# Altium schematic symbol library Toygether_Schlib.SchLib: 35 symbols
Pins are listed as number, name and electrical type; pins without a type are passive.

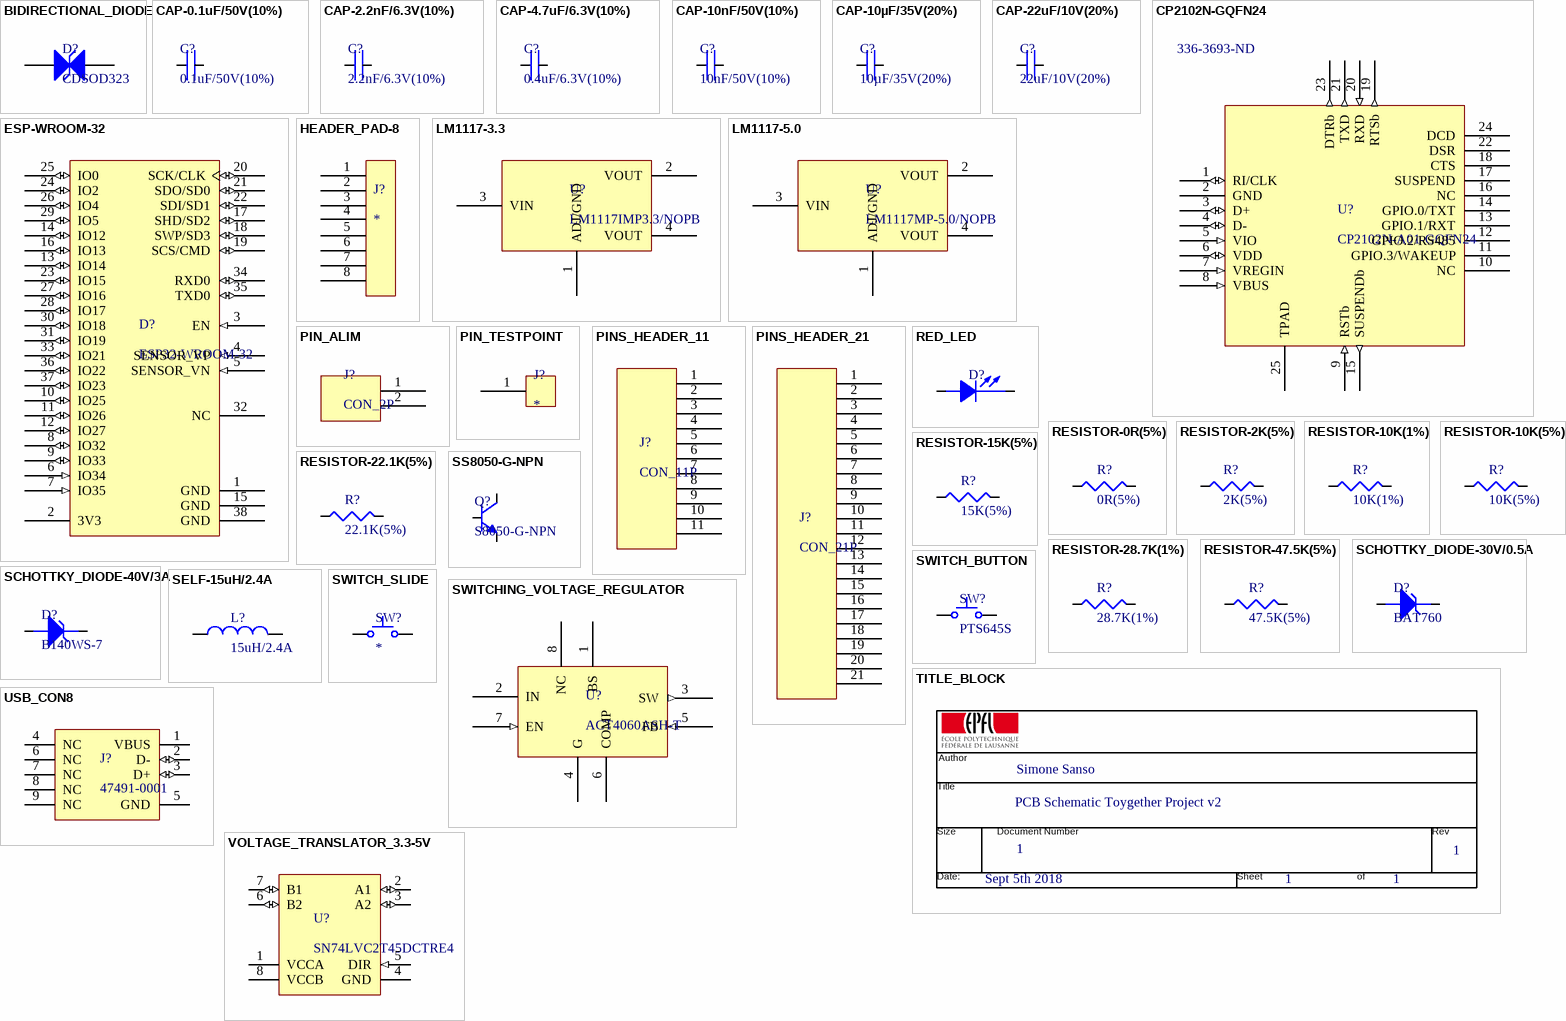
[diagram p0: symbols BIDIRECTIONAL_DIODE to VOLTAGE_TRANSLATOR_3.3-5V]

## BIDIRECTIONAL_DIODE
designator D?, comment CDSOD323
CDSOD323-T05LC - ESD Suppressors / TVS Diodes Bidirectional Ultra Low Cap; Supplier 1: Mouser; Supplier Part Number 1: 652-CDSOD323-T05LC
footprint SOD-323-SCHOTTKY_DIODE-30V/0.5A (Molded Diode, 2-Leads, Body 2,50x1,30mm, IPC Medium Density)
pins: 1 C, 2 C

## CAP-0.1uF/50V(10%)
designator C?, comment 0.1uF/50V(10%)
GRM188R71H104KA93D-0.1uF/50V(10%); Supplier 1: Distrelec; Supplier Part Number 1: 16520001
footprint CAPC0603 (Chip Capacitor, 2-Leads, Body 1,60x0,80mm, IPC Medium Density)
pins: 1, 2

## CAP-2.2nF/6.3V(10%)
designator C?, comment 2.2nF/6.3V(10%)
C0603X7R0J222K030BA; Supplier 1: Mouser; Supplier Part Number 1: 810-C0603X7R0J222K0A
footprint CAPC0603 (Chip Capacitor, 2-Leads, Body 1,60x0,80mm, IPC Medium Density)
pins: 1, 2

## CAP-4.7uF/6.3V(10%)
designator C?, comment 0.4uF/6.3V(10%)
GRT188C80J475KE01D; Supplier 1: Mouser; Supplier Part Number 1: 81-GRT188C80J475KE1D
footprint CAPC0603 (Chip Capacitor, 2-Leads, Body 1,60x0,80mm, IPC Medium Density)
pins: 1, 2

## CAP-10nF/50V(10%)
designator C?, comment 10nF/50V(10%)
C1608X7R1H103K080AE; Supplier 1: Mouser; Supplier Part Number 1: 810-C1608X7R1H103KAE
footprint CAPC0603 (Chip Capacitor, 2-Leads, Body 1,60x0,80mm, IPC Medium Density)
pins: 1, 2

## CAP-10µF/35V(20%)
designator C?, comment 10µF/35V(20%)
C0603C106M8PACTU; Supplier 1: Mouser; Supplier Part Number 1: 80-C0603C106M8PACTU
footprint CAPC0603 (Chip Capacitor, 2-Leads, Body 1,60x0,80mm, IPC Medium Density)
pins: 1, 2

## CAP-22uF/10V(20%)
designator C?, comment 22uF/10V(20%)
GRM188R61A226ME15D-22uF/10V(20%); Supplier 1: Digi-Key; Supplier Part Number 1: 490-10476-6-ND
footprint CAPC0603 (Chip Capacitor, 2-Leads, Body 1,60x0,80mm, IPC Medium Density)
pins: 1, 2

## CP2102N-GQFN24
designator U?, comment CP2102N-A01-GQFN24  Supplier Part Number 1: 336-3693-ND
Supplier 1: Digi-Key
footprint CP2102N-GQFN24 (QFN, 24-Leads, Body 4,00x4,00mm, Pitch 0,50mm, Thermal Pad 2,55x2,55mm, IPC Medium Density)
pins: 1 RI/CLK (io) "Digital Input. Ring Indicator control input (active low). / Digital Output. Clock output.", 2 GND "Ground", 3 D+ (io) "USB Data Positive", 4 D- (io) "USB Data Negative", 5 VIO (in) "I/O Supply Power Input", 6 VDD (io) "Supply Power Input / 5V Regulator Output", 7 VREGIN (in) "5V Regulator Input", 8 VBUS (in) "Digital Input. VBUS Sense Input. This pin should be connected to the VBUS signal of a USB network. A 5 V signal on this pin indicates a USB network connection", 9 RSTb (in) "Active-low Reset", 10 NC "No Connect (leave this pin floating).", 11 GPIO.3/WAKEUP "Digital Input/Output. General Purpose I/O. / Digital Input. Remote USB wakeup interrupt input.", 12 GPIO.2/RS485 "Digital Input/Output. General Purpose I/O. / Digital Output. RS485 control signal.", 13 GPIO.1/RXT "Digital Input/Output. General Purpose I/O / Digital Output. Receive LED toggle.", 14 GPIO.0/TXT "Digital Input/Output. General Purpose I/O. / Digital Output. Transmit LED toggle.", 15 SUSPENDb (out) "Digital Output. This pin is driven low when the device enters the USB suspend state.", 16 NC "No Connect (leave this pin floating).", 17 SUSPEND "Digital Output. This pin is driven high when the device enters the USB suspend state", 18 CTS "Digital Input. Clear To Send control input (active low).", 19 RTSb (out) "Digital Output. Ready To Send control output (active low).", 20 RXD (in) "Digital Input. Asynchronous data input (UART Receive).", 21 TXD (out) "Digital Output. Asynchronous data output (UART Transmit).", 22 DSR "Digital Input. Data Set Ready control input (active low).", 23 DTRb (out) "Digital Output. Data Terminal Ready control output (active low).", 24 DCD "Digital Input. Data Carrier Detect control input (active low).", 25 TPAD

## ESP-WROOM-32
designator D?, comment ESP32-WROOM-32
Supplier 1: Mouser; Supplier Part Number 1: 356-ESP-WROOM-32
footprint OLMX-ESP-WROOM-32 (SMD, 38-Leads, Body 18x25.5mm, Pitch 1.27mm)
pins: 1 GND (power) "Ground", 2 3V3 (power) "Power supply.", 3 EN (in) "Chip-enable signal. Active high.", 4 SENSOR_VP (in) "GPIO36, SENSOR_VP, ADC_H, ADC1_CH0, RTC_GPIO0", 5 SENSOR_VN (in) "GPIO39, SENSOR_VN, ADC1_CH3, ADC_H, RTC_GPIO3", 6 IO34 (in) "GPIO34, ADC1_CH6, RTC_GPIO4", 7 IO35 (in) "GPIO35, ADC1_CH7, RTC_GPIO5", 8 IO32 (io) "GPIO32, XTAL_32K_P (32.768 kHz crystal oscillator input), ADC1_CH4, TOUCH9, RTC_GPIO9", 9 IO33 (io) "GPIO33, XTAL_32K_N (32.768 kHz crystal oscillator output), ADC1_CH5, TOUCH8, RTC_GPIO8", 10 IO25 (io) "GPIO25, DAC_1, ADC2_CH8, RTC_GPIO6, EMAC_RXD0", 11 IO26 (io) "GPIO26, DAC_2, ADC2_CH9, RTC_GPIO7, EMAC_RXD1", 12 IO27 (io) "GPIO27, ADC2_CH7, TOUCH7, RTC_GPIO17, EMAC_RX_DV", 13 IO14 (io) "GPIO14, ADC2_CH6, TOUCH6, RTC_GPIO16, MTMS, HSPICLK, HS2_CLK, SD_CLK, EMAC_TXD2", 14 IO12 (io) "GPIO12, ADC2_CH5, TOUCH5, RTC_GPIO15, MTDI, HSPIQ, HS2_DATA2, SD_DATA2, EMAC_TXD3", 15 GND (power) "Ground", 16 IO13 (io) "GPIO13, ADC2_CH4, TOUCH4, RTC_GPIO14, MTCK, HSPID, HS2_DATA3, SD_DATA3, EMAC_RX_ER", 17 SHD/SD2 (io) "GPIO9, SD_DATA2, SPIHD, HS1_DATA2, U1RXD", 18 SWP/SD3 (io) "GPIO10, SD_DATA3, SPIWP, HS1_DATA3, U1TXD", 19 SCS/CMD (io) "GPIO11, SD_CMD, SPICS0, HS1_CMD, U1RTS", 20 SCK/CLK (io) "GPIO6, SD_CLK, SPICLK, HS1_CLK, U1CTS", 21 SDO/SD0 (io) "GPIO7, SD_DATA0, SPIQ, HS1_DATA0, U2RTS", 22 SDI/SD1 (io) "GPIO8, SD_DATA1, SPID, HS1_DATA1, U2CTS", 23 IO15 (io) "GPIO15, ADC2_CH3, TOUCH3, MTDO, HSPICS0, RTC_GPIO13, HS2_CMD, SD_CMD, EMAC_RXD3", 24 IO2 (io) "GPIO2, ADC2_CH2, TOUCH2, RTC_GPIO12, HSPIWP, HS2_DATA0, SD_DATA0", 25 IO0 (io) "GPIO0, ADC2_CH1, TOUCH1, RTC_GPIO11, CLK_OUT1, EMAC_TX_CLK", 26 IO4 (io) "GPIO4, ADC2_CH0, TOUCH0, RTC_GPIO10, HSPIHD, HS2_DATA1, SD_DATA1, EMAC_TX_ER", 27 IO16 (io) "GPIO16, HS1_DATA4, U2RXD, EMAC_CLK_OUT", 28 IO17 (io) "GPIO17, HS1_DATA5, U2TXD, EMAC_CLK_OUT_180", 29 IO5 (io) "GPIO5, VSPICS0, HS1_DATA6, EMAC_RX_CLK", 30 IO18 (io) "GPIO18, VSPICLK, HS1_DATA7", 31 IO19 (io) "GPIO19, VSPIQ, U0CTS, EMAC_TXD0", 32 NC "Not connected", 33 IO21 (io) "GPIO21, VSPIHD, EMAC_TX_EN", 34 RXD0 (io) "GPIO3, U0RXD, CLK_OUT2", 35 TXD0 (io) "GPIO1, U0TXD, CLK_OUT3, EMAC_RXD2", 36 IO22 (io) "GPIO22, VSPIWP, U0RTS, EMAC_TXD1", 37 IO23 (io) "GPIO23, VSPID, HS1_STROBE", 38 GND (power) "Ground"

## HEADER_PAD-8
designator J?
footprint HEADER-PAD-8
pins: 1 9, 2, 3, 4, 5, 6, 7, 8

## LM1117-3.3
designator U?, comment LM1117IMP3.3/NOPB
Supplier 1: Distrelec; Supplier Part Number 1: 173-06-781
footprint LM1117 (SOT223, 4-Leads, Body 6,50x7,00mm (avg), Pitch 2,30mm, IPC Medium Density)
pins: 1 ADJ/GND, 2 VOUT (power), 3 VIN (power), 4 VOUT (power)

## LM1117-5.0
designator U?, comment LM1117MP-5.0/NOPB
Supplier 1: Distrelec; Supplier Part Number 1: 17306787
footprint LM1117 (SOT223, 4-Leads, Body 6,50x7,00mm (avg), Pitch 2,30mm, IPC Medium Density)
pins: 1 ADJ/GND, 2 VOUT (power), 3 VIN (power), 4 VOUT (power)

## PIN_ALIM
designator J?, comment CON_2P
2 Positions Header, Breakaway Connector 0.100" (2.54mm) Through Hole Tin
footprint PINS_ALIM-2
pins: 1 VIN (power), 2 GND

## PIN_TESTPOINT
designator J?
1 Position Header, Breakaway Connector 0.100" (2.54mm) Through Hole Tin
footprint PIN_TESTPOINT
pins: 1 Testpoint

## PINS_HEADER_11
designator J?, comment CON_11P
11 Positions Header, Breakaway Connector 0.100" (2.54mm) Through Hole Tin
footprint PINS_HEADER-11
pins: 1, 2 1, 3 1, 4 1, 5 1, 6 1, 7 1, 8 1, 9 1, 10 1, 11 1

## PINS_HEADER_21
designator J?, comment CON_21P
21 Positions Header, Breakaway Connector 0.100" (2.54mm) Through Hole Tin; Supplier 1: Digi-Key; Supplier Part Number 1: S1012EC-21-ND
footprint PINS_HEADER-21
pins: 1, 2 1, 3 1, 4 1, 5 1, 6 1, 7 1, 8 1, 9 1, 10 1, 11 1, 12 1, 13 1, 14 1, 15 1, 16 1, 17 1, 18 1, 19 1, 20 1, 21 1

## RED_LED
designator D?, comment SML-D12U1WT86  (value not drawn)
SML-D12U1WT86-2.2V-20mA; Supplier 1: Mouser; Supplier Part Number 1: 755-SML-D12U1WT86
footprint SML-D12U1WT86 (Molded Diode, 2-Leads, Body 1,60x0,80mm, IPC Medium Density)
pins: 1, 2

## RESISTOR-0R(5%)
designator R?, comment 0R(5%)
RC0402JR-070RL; Supplier 1: Newark; Supplier Part Number 1: 67R9963
footprint RC0402 (Chip Resistor, 2-Leads, Body 1,02x0,50mm, IPC Medium Density)
pins: 1, 2

## RESISTOR-2K(5%)
designator R?, comment 2K(5%)
RC0402JR-072KL; Supplier 1: Newark; Supplier Part Number 1: 67R9979
footprint RC0402 (Chip Resistor, 2-Leads, Body 1,02x0,50mm, IPC Medium Density)
pins: 1, 2

## RESISTOR-10K(1%)
designator R?, comment 10K(1%)
RC0402F103CS; Supplier 1: Digi-Key; Supplier Part Number 1: 1276-3530-6-ND
footprint RC0402 (Chip Resistor, 2-Leads, Body 1,02x0,50mm, IPC Medium Density)
pins: 1, 2

## RESISTOR-10K(5%)
designator R?, comment 10K(5%)
RC0402JR-0710KL; Supplier 1: Newark; Supplier Part Number 1: 67R9964
footprint RC0402 (Chip Resistor, 2-Leads, Body 1,02x0,50mm, IPC Medium Density)
pins: 1, 2

## RESISTOR-15K(5%)
designator R?, comment 15K(5%)
RC0402JR-0715KL; Supplier 1: Newark; Supplier Part Number 1: 67R9973
footprint RC0402 (Chip Resistor, 2-Leads, Body 1,02x0,50mm, IPC Medium Density)
pins: 1, 2

## RESISTOR-22.1K(5%)
designator R?, comment 22.1K(5%)
RC0402FR-0722K1L; Supplier 1: Arrow; Supplier Part Number 1: RC0402FR-0722K1L**MULT1
footprint RC0402 (Chip Resistor, 2-Leads, Body 1,02x0,50mm, IPC Medium Density)
pins: 1, 2

## RESISTOR-28.7K(1%)
designator R?, comment 28.7K(1%)
RC0402JR-072K7L; Supplier 1: Newark; Supplier Part Number 1: 67R9981
footprint RC0402 (Chip Resistor, 2-Leads, Body 1,02x0,50mm, IPC Medium Density)
pins: 1, 2

## RESISTOR-47.5K(5%)
designator R?, comment 47.5K(5%)
RC0402FR-0747K5L; Supplier 1: Future Electronics; Supplier Part Number 1: 2781938
footprint RC0402 (Chip Resistor, 2-Leads, Body 1,02x0,50mm, IPC Medium Density)
pins: 1, 2

## SCHOTTKY_DIODE-30V/0.5A
designator D?, comment BAT760
BAT760-7-Schottky Diodes & Rectifiers 0.5A 30V LF; Supplier 1: Avnet; Supplier Part Number 1: BAT760-7/BKN
footprint SOD-323-SCHOTTKY_DIODE-30V/0.5A (Molded Diode, 2-Leads, Body 2,50x1,30mm, IPC Medium Density)
pins: 1 A, 2 K

## SCHOTTKY_DIODE-40V/3A
designator D?, comment B140WS-7
Diode Schottky 40V 1A 2-Pin SOD-323 T/R; Supplier 1: Mouser; Supplier Part Number 1: 621-B140WS-7
footprint SOD-323-SCHOTTKY_DIODE-40V/1A
pins: 1 A, 2 K

## SELF-15uH/2.4A
designator L?, comment 15uH/2.4A
NRS8040T150MJGJ; Supplier 1: Mouser; Supplier Part Number 1: 963-NRS8040T150MJGJ
footprint NRS8040-SELF-15uH/2.4A (Precision Wire Wound Inductor, 2-Leads, Body 8,00x8,00mm, IPC Medium Density)
pins: 1, 2

## SS8050-G-NPN
designator Q?, comment S8050-G-NPN
750-SS8050-G-BJT NPN SOT-23-3 TRANSISTOR 1.5A 40V; Supplier 1: Mouser; Supplier Part Number 1: 750-SS8050-G
footprint SOT23 (SOT23, 3-Leads, Body 2,90x2,40mm, Pitch 0,95mm, IPC Medium Density)
pins: 1 BASE, 2 EMITTER, 3 COLLECTOR

## SWITCH_BUTTON
designator SW?, comment PTS645S
PTS645SL432LFS; Supplier 1: Avnet; Supplier Part Number 1: PTS645SL432LFS
footprint CKCP-PTS645S_V (THD, 4-Leads, Body 6x6mm, Pitch 4.5mm)
pins: 1, 2

## SWITCH_SLIDE
designator SW?
48ASSP1S1M6QBT; Supplier 1: Distrelec; Supplier Part Number 1: 11087397
footprint SW_SLIDE
pins: 1, 2

## SWITCHING_VOLTAGE_REGULATOR
designator U?, comment ACT4060ASH-T
Supplier 1: Mouser; Supplier Part Number 1: 107-ACT4060ASH-T
footprint SWITCHING_VOLTAGE_REGULATOR
pins: 1 BS "Bootstrap. This pin acts as the positive rail for the high-side switch’s gate driver. Connect a 10nF capacitor between BS and SW.", 2 IN (power) "Input Supply. Bypass this pin to G with a low ESR capacitor.", 3 SW (out) "Switch Output. Connect this pin to the switching end of the inductor.", 4 G (power) "Ground", 5 FB (in) "Feedback Input. The voltage at this pin is regulated to 1.293V. Connect to the resistor divider between output and ground to set output voltage.", 6 COMP "Compensation Pin", 7 EN (in) "Enable Input. When higher than 1.3V, this pin turns the IC on. When lower than 0.7V, this pin turns the IC off. Output voltage is discharged when the IC is off. When left unconnected, EN is pulled up to 4.5V with a 2µA pull-up current.", 8 NC

## TITLE_BLOCK
designator T  (value not drawn)
TITLE_BLOCK
text: Author; Simone Sanso; Title; PCB Schematic Toygether Project v2; Size; Document Number; Rev; 1; Date:; Sheet; of; Sept 5th 2018

## USB_CON8
designator J?, comment 47491-0001
USB Connectors MICRO USB B RECPT MIDDLE MNT ASSY; Supplier 1: Distrelec; Supplier Part Number 1: 30076400
footprint USB-MICRO-B_V (USB, MICRO B, Body 7.491x4.695 mm, Pitch 0.65 mm)
pins: 1 VBUS (power), 2 D- (io), 3 D+ (io), 4 NC, 5 GND (power), 6 NC, 7 NC, 8 NC, 9 NC

## VOLTAGE_TRANSLATOR_3.3-5V
designator U?, comment SN74LVC2T45DCTRE4
Translation - Voltage Levels DUAL-BIT DUAL SUPPLY TRANSCEIVER; Supplier 1: Farnell; Supplier Part Number 1: 9592768
footprint VOLTAGE_TRANSLATOR_3.3-5V (TSSOP, 8-Leads, Body 2,00x2,30mm, Pitch 0,50mm, IPC Medium Density)
pins: 1 VCCA (power), 2 A1 (io), 3 A2 (io), 4 GND (power), 5 DIR (in), 6 B2 (io), 7 B1 (io), 8 VCCB (power)